# Altium footprint library Capacitor_Electrolytic_SMD.PcbLib: 5 footprints
Each footprint in its own frame and in the unit in brackets; x right, y up, seen from the top. Pads: shape width x height; smd on the part's side, far side on the other; paste and mask are expansions set on the pad; w line width, h text height; cw(c..) or ccw(c..) is an arc to the next point about the centre after c.
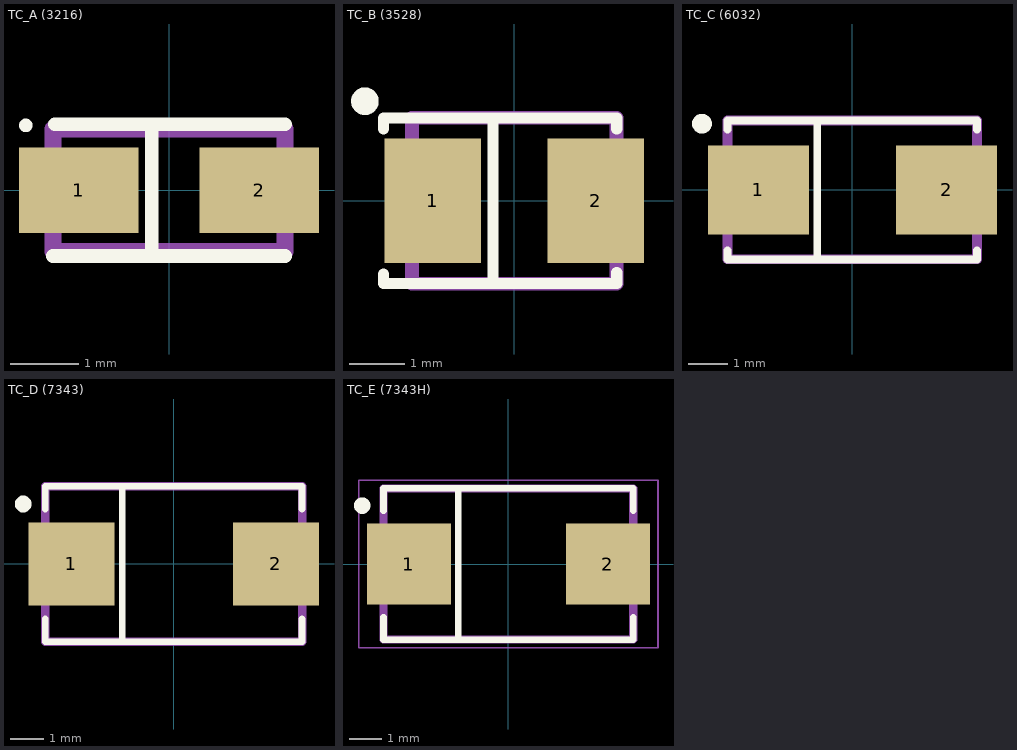
[diagram p0: the footprints below, top view; thin cyan lines are the x and y axes]

## TC_A (3216) [mm] "Tantalum capacitor, type A,  1 pin - plus"
height 1.8
pads (2):
  rect 1.75x1.25 smd: 1(-1.325,0) 2(1.325,0)
Top Overlay:
  circle w0.1: c-2.1,0.95 r0.05
  lines w0.2: -1.702,-0.965 -0.254,-0.965 ; -1.676,0.965 -0.254,0.965 ; 1.702,-0.965 -0.254,-0.965 ; 1.702,0.965 -0.254,0.965 ; -0.254,-0.965 -0.254,0.965
Mechanical 4:
  lines w0.25: -1.7,-0.9 1.7,-0.9 1.7,0.9 -1.7,0.9 -1.7,-0.9
  text ".Designator" at 3.7,5.303 h2.15
3D body "Tant Cap SMD size A _ 3216-18.stp": height 1.64, standoff 0.01, extent -1.73,-0.8 1.73,0.8

## TC_B (3528) [mm] "Tantalum capacitor, type B, 1 pin - plus"
height 2.1
pads (2):
  rect 1.75x2.25 smd: 1(-1.475,0) 2(1.475,0)
Top Overlay:
  circle w0.25: c-2.7,1.8 r0.125
  lines w0.2: -2.362,-1.321 -2.362,-1.499 -2.361,-1.5 -0.381,-1.5 1.854,-1.5 1.854,-1.295 ; -2.361,1.295 -2.361,1.5 -0.381,1.5 ; -0.381,-1.499 -0.381,1.5 ; 1.854,1.295 1.854,1.5 -0.381,1.5
Mechanical 4:
  lines w0.25: -1.85,-1.5 1.85,-1.5 1.85,1.5 -1.85,1.5 -1.85,-1.5
  text ".Designator" at 3.4,6.203 h2.15
3D body "CAPM-TANTB-BK.stp": height 2.1, standoff 0, extent -1.85,-1.5 1.85,1.5

## TC_C (6032) [mm] "Tantalum capacitor, type C, 1 pin - plus"
height 2.8
pads (2):
  rect 2.55x2.25 smd: 1(-2.375,0) 2(2.375,0)
Top Overlay:
  circle w0.25: c-3.8,1.675 r0.125
  lines w0.2: -3.15,-1.525 -3.15,-1.75 3.15,-1.75 3.15,-1.525 ; -3.15,1.525 -3.15,1.75 3.15,1.75 3.15,1.525 ; -0.889,-1.75 -0.889,1.75
Mechanical 4:
  lines w0.25: -3.15,-1.75 -3.15,1.75 3.15,1.75 3.15,-1.75 -3.15,-1.75
  text ".Designator" at 0.9,6.303 h2.15
3D body "CAPM-TANTC-YL.stp": height 2.8, standoff 0, extent -3.1,-1.7 3.1,1.7

## TC_D (7343) [mm] "Tantalum capacitor, type D, 1 pin - plus"
height 3.1
pads (2):
  rect 2.55x2.45 smd: 1(-3.025,0) 2(3.025,0)
Top Overlay:
  circle w0.25: c-4.45,1.775 r0.125
  lines w0.2: -3.8,-1.625 -3.8,-2.3 3.8,-2.3 3.8,-1.625 ; -3.8,1.625 -3.8,2.3 3.8,2.3 3.8,1.625 ; -1.524,-2.3 -1.524,2.3
Mechanical 4:
  lines w0.25: -3.8,-2.3 -3.8,2.3 3.8,2.3 3.8,-2.3 -3.8,-2.3
  text ".Designator" at 1.3,6.903 h2.15
3D body "CAPM-TANTD-YL.stp": height 3.1, standoff 0, extent -3.75,-2.25 3.75,2.25

## TC_E (7343H) [mm] "Tantalum capacitor, type E, 1 pin - plus"
height 4.3
pads (2):
  rect 2.55x2.45 smd: 1(-3.025,0) 2(3.025,0)
Top Overlay:
  circle w0.25: c-4.45,1.775 r0.125
  lines w0.2: -3.8,-1.625 -3.8,-2.3 3.8,-2.3 3.8,-1.625 ; -3.8,1.625 -3.8,2.3 3.8,2.3 3.8,1.625 ; -1.524,-2.3 -1.524,2.3
Mechanical 4:
  lines w0.25: -3.8,-2.3 -3.8,2.3 3.8,2.3 3.8,-2.3 -3.8,-2.3
  text ".Designator" at 0.8,6.703 h2.15
Mechanical 15:
  lines w0.05: -4.55,-2.55 -4.55,2.55 4.55,2.55 4.55,-2.55 -4.55,-2.55
3D body "CAPM-TANTN-BK.stp": height 3, standoff 0, extent -3.75,-2.25 3.75,2.25